# Altium footprint library 1050170001.PcbLib: 1 footprints
Each footprint in its own frame and in the unit in brackets; x right, y up, seen from the top. Pads: shape width x height; smd on the part's side, far side on the other; paste and mask are expansions set on the pad; w line width, h text height; cw(c..) or ccw(c..) is an arc to the next point about the centre after c.
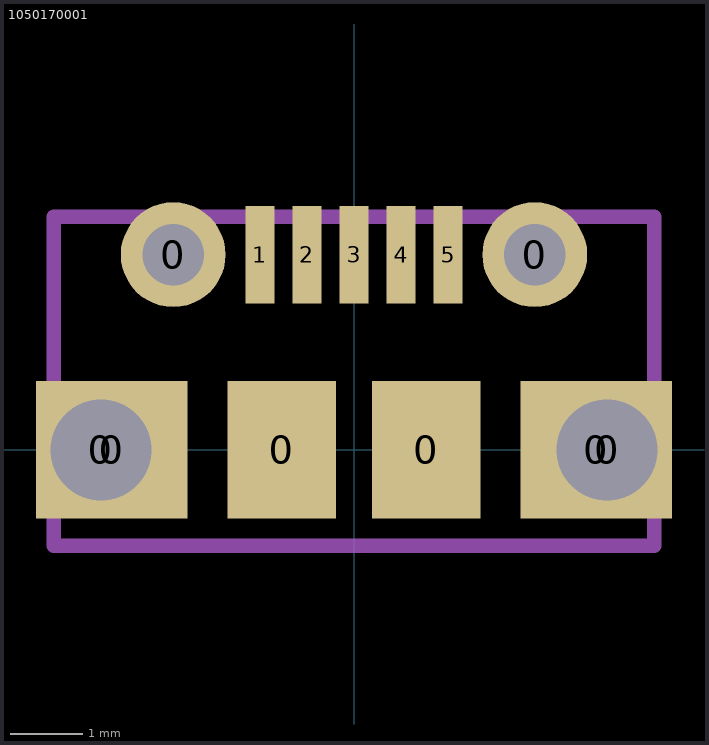
[diagram p0: the footprint, top view; thin cyan lines are the x and y axes]

## 1050170001 [mm] "CONN USB MICRO MOLEX MODIFIED FOR DRILL HITS"
pads (13):
  round 1.8 hole 1.4: 0(-3.5,0) 0(3.5,0)
  rect 2.1x1.9 smd: 0(-3.35,0) 0(3.35,0)
  round 1.45 hole 0.85: 0(-2.5,2.7) 0(2.5,2.7)
  rect 1.5x1.9 smd: 0(-1,0) 0(1,0)
  rect 0.4x1.35 smd: 1(-1.3,2.7) 2(-0.65,2.7) 3(0,2.7) 4(0.65,2.7) 5(1.3,2.7)
Top Courtyard:
  lines w0.2: 4.1,3.225 -4.15,3.225 -4.15,-1.325 4.15,-1.325 4.15,3.225
3D body "1050170001.stp": height 2.78, standoff -0.53, extent -4.1,-2.5 4.1,2.9